# EAGLE library part NC7*74 (library NewSDR)
Fairchild Ultra Low Power Single D type positive edge triggered FLIP FLOP, preset and clear
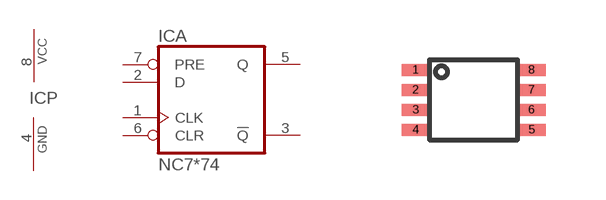
[diagram p11: symbol with the pads of US8-8; footprint US8-8]

Designator prefix IC; gates A=7474 P=PWRN

## NC7SV74K8X  [US8-8]
1  A:CLK  in
2  A:D  in
3  A:!Q  out
4  P:GND  pwr
5  A:Q  out
6  A:CLR  in
7  A:PRE  in
8  P:VCC  pwr

## Footprint US8-8 (pad centres in mm)
8-Lead US8 Package
smd 0.7 x 0.3: 1 -1.45,0.75; 2 -1.45,0.25; 3 -1.45,-0.25; 4 -1.45,-0.75; 5 1.45,-0.75; 6 1.45,-0.25; 7 1.45,0.25; 8 1.45,0.75